# EAGLE library part TQ2-2M-24V (library FSAE Eletric)
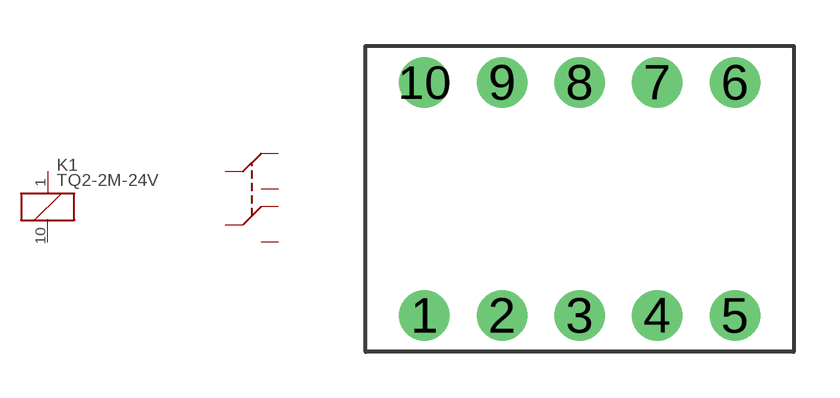
[diagram p47: symbol with the pads of TQ2-2M-24V; footprint TQ2-2M-24V]

Designator prefix K1; gates G$1=COIL G$2=DPDT

## TQ2-2M-24V  [TQ2-2M-24V]
1  G$1:+  pas
2  G$2:NC1
3  G$2:C1
4  G$2:NO1
7  G$2:NO2
8  G$2:C2
9  G$2:NC2
10  G$1:-  pas

## Footprint TQ2-2M-24V (pad centres in mm)
drill 1.1: 1 -5.08,-3.81; 2 -2.54,-3.81; 3 0,-3.81; 4 2.54,-3.81; 5 5.08,-3.81; 6 5.08,3.81; 7 2.54,3.81; 8 0,3.81; 9 -2.54,3.81; 10 -5.08,3.81